# EAGLE library part BME (library bluepill)
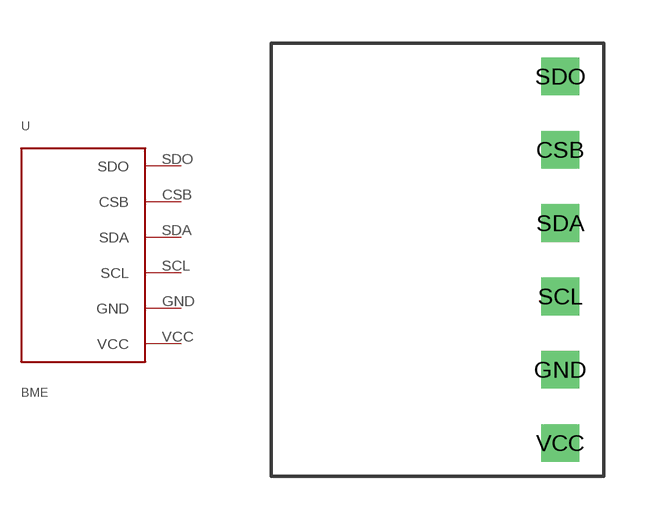
[diagram p2: symbol with the pads of BME; footprint BME]

Designator prefix -

## BME  [BME]
CSB  CSB
GND  GND
SCL  SCL
SDA  SDA
SDO  SDO
VCC  VCC

## Footprint BME (pad centres in mm)
drill 0.8 square: CSB 4.25,3.81; GND 4.25,-3.81; SCL 4.25,-1.27; SDA 4.25,1.27; SDO 4.25,6.35; VCC 4.25,-6.35